# EAGLE library part BQ24210DQCR (library BQ24210DQCR)
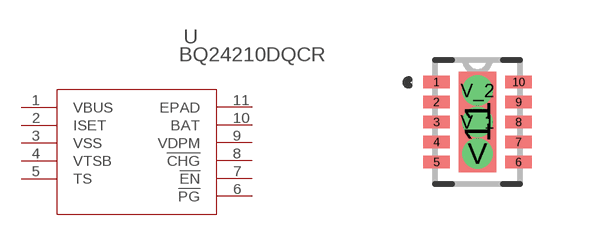
[diagram p0: symbol with the pads of DQC10_P84X2P4; footprint DQC10_P84X2P4]

Designator prefix U

## BQ24210DQCR (DATASHEET_URL: http://www.ti.com/lit/gpn/BQ24210; DESCRIPTION: 800mA, Single-Input, Single Cell Li-Ion Solar Battery Charger; FAMILY_NAME: BATTERY CHARGE MANAGEMENT; GENERIC_PART_NUMBER: BQ24210; INDUSTRY_STD_PKG_TYPE: WSON; MANUFACTURER: Texas Instruments; PACKAGE_DESIGNATOR: DQC; PIN_COUNT: 10)  [DQC10_P84X2P4]
1  VBUS
2  ISET  in
3  VSS  pwr
4  VTSB  out
5  TS  in
6  !PG  out
7  !EN  in
8  !CHG  out
9  VDPM  in
10  BAT
11  EPAD  pwr

## Footprint DQC10_P84X2P4 (pad centres in mm)
smd 0.66 x 0.305: 1 -1.029,1; 2 -1.029,0.5; 3 -1.029,0; 4 -1.029,-0.5; 5 -1.029,-1; 6 1.029,-1; 7 1.029,-0.5; 8 1.029,0; 9 1.029,0.5; 10 1.029,1
smd 0.94 x 2.515: 11 0,0
drill 0.254 pad 0.508: V 0,-0.787; V_1 0,0; V_2 0,0.787